# EAGLE library part SRC4192 (library AMP2-ICs)
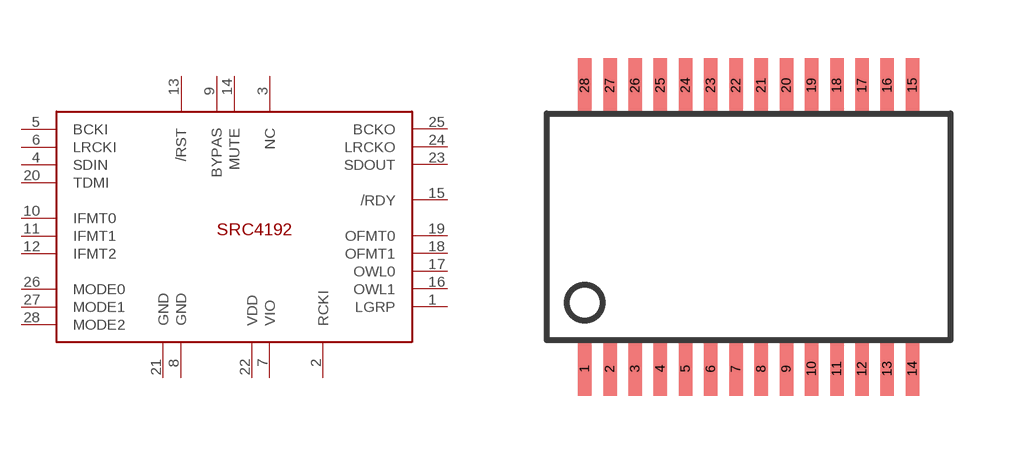
[diagram p72: symbol with the pads of SSOP28BU; footprint SSOP28BU]

Designator prefix -

## SRC4192  [SSOP28BU]
1  LGRP
2  RCKI
3  NC
4  SDIN
5  BCKI
6  LRCKI
7  VIO
8  GND
9  BYPAS
10  IFMT0
11  IFMT1
12  IFMT2
13  /RST
14  MUTE
15  /RDY
16  OWL1
17  OWL0
18  OFMT1
19  OFMT0
20  TDMI
21  GND
22  VDD
23  SDOUT
24  LRCKO
25  BCKO
26  MODE0
27  MODE1
28  MODE2

## Footprint SSOP28BU (pad centres in mm)
Small Shrink Outline Package
smd 0.348 x 1.397: 1 -4.225,-3.656; 2 -3.575,-3.656; 3 -2.925,-3.656; 4 -2.275,-3.656; 5 -1.625,-3.656; 6 -0.975,-3.656; 7 -0.325,-3.656; 8 0.325,-3.656; 9 0.975,-3.656; 10 1.625,-3.656; 11 2.275,-3.656; 12 2.925,-3.656; 13 3.575,-3.656; 14 4.225,-3.656; 15 4.225,3.656; 16 3.575,3.656; 17 2.925,3.656; 18 2.275,3.656; 19 1.625,3.656; 20 0.975,3.656; 21 0.325,3.656; 22 -0.325,3.656; 23 -0.975,3.656; 24 -1.625,3.656; 25 -2.275,3.656; 26 -2.925,3.656; 27 -3.575,3.656; 28 -4.225,3.656